# Altium schematic symbol library 528921095.Schlib: 1 symbol
Pins are listed as number, name and electrical type; pins without a type are passive.

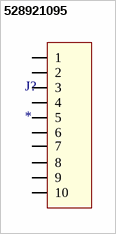
[diagram p0: symbol 528921095]

## 528921095
designator J?
CONN SMT FPC 0.5MM 10POS 528921095
pins: 1, 2, 3, 4, 5, 6, 7, 8, 9, 10